# Altium footprint library PCB - LCD - NEWHAVEN DISPLAY NHD-0420H1Z-FSW-GBW.PcbLib: 1 footprints
Each footprint in its own frame and in the unit in brackets; x right, y up, seen from the top. Pads: shape width x height; smd on the part's side, far side on the other; paste and mask are expansions set on the pad; w line width, h text height; cw(c..) or ccw(c..) is an arc to the next point about the centre after c.
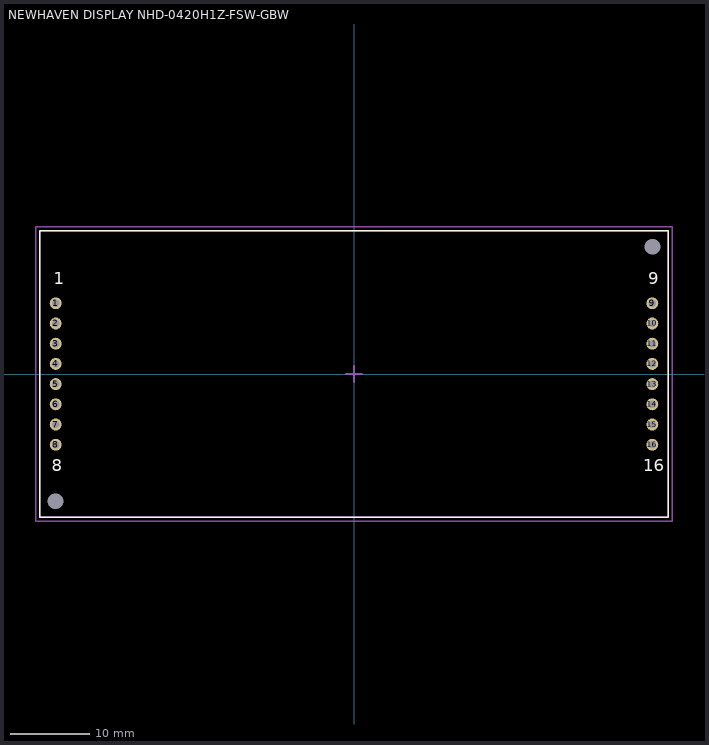
[diagram p0: the footprint, top view; thin cyan lines are the x and y axes]

## NEWHAVEN DISPLAY NHD-0420H1Z-FSW-GBW [mm] "LCD MOD 80DIG 20X4 TRANSFLCT WHT"
height 13
pads (18):
  round 1.5 hole 0.9: 1(-37.5,8.89) 2(-37.5,6.35) 3(-37.5,3.81) 4(-37.5,1.27) 5(-37.5,-1.27) 6(-37.5,-3.81) 7(-37.5,-6.35) 8(-37.5,-8.89) 9(37.5,8.89) 10(37.5,6.35) 11(37.5,3.81) 12(37.5,1.27) 13(37.5,-1.27) 14(37.5,-3.81) 15(37.5,-6.35) 16(37.5,-8.89)
  round 0 hole 2: M(-37.5,-16) M(37.5,16)
Top Overlay:
  lines w0.2: -39.5,-18 -39.5,0 -39.5,18 39.5,18 39.5,-18 -39.5,-18
  text "1" at -37.75,11.254 h1.5
  text "8" at -38,-12.246 h1.5
  text "16" at 36.375,-12.246 h1.5
  text "9" at 37,11.254 h1.5
Top Component Outline:
  lines w0.2: -1,0 1,0 ; 0,-1 0,1 ; -39.5,-18 39.5,-18 39.5,18 -39.5,18 -39.5,-18
Top Courtyard:
  lines w0.2: -40,-18.5 -40,18.5 40,18.5 40,-18.5 -40,-18.5
3D body "NHD-0420H1Z.step": height 12.74, standoff -6, extent -39.492,-18 39.508,18